# EAGLE library part B6B-XH-A (library Traficon)
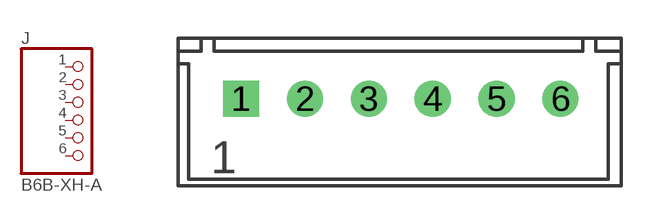
[diagram p261: symbol with the pads of B6B-XH-A; footprint B6B-XH-A]

Designator prefix J

## B6B-XH-A  [B6B-XH-A]
1  1  pas
2  2  pas
3  3  pas
4  4  pas
5  5  pas
6  6  pas

## Footprint B6B-XH-A (pad centres in mm)
drill 0.9 square: 1 0,-0.01
drill 0.9 round: 2 2.5,-0.01; 3 5,-0.01; 4 7.5,-0.01; 5 10,-0.01; 6 12.5,-0.01